# Altium footprint library LTC6811-2.PcbLib: 1 footprints
Each footprint in its own frame and in the unit in brackets; x right, y up, seen from the top. Pads: shape width x height; smd on the part's side, far side on the other; paste and mask are expansions set on the pad; w line width, h text height; cw(c..) or ccw(c..) is an arc to the next point about the centre after c.
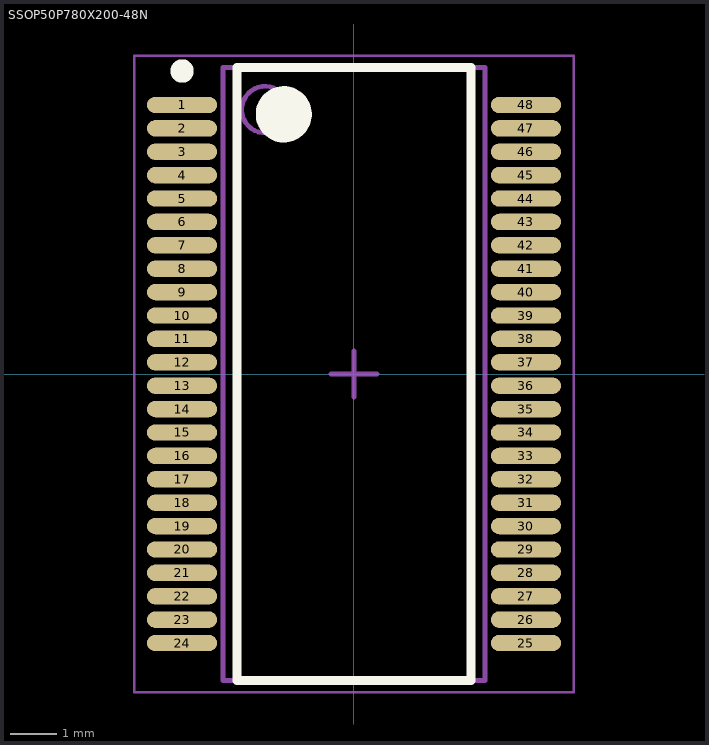
[diagram p0: the footprint, top view; thin cyan lines are the x and y axes]

## SSOP50P780X200-48N [mm] "SSOP, 48-Leads, Body 12.80x5.30mm, Pitch 0.50mm, IPC Medium Density"
height 2
pads (48):
  oval 1.5x0.35 smd: 1(-3.675,5.75) 2(-3.675,5.25) 3(-3.675,4.75) 4(-3.675,4.25) 5(-3.675,3.75) 6(-3.675,3.25) 7(-3.675,2.75) 8(-3.675,2.25) 9(-3.675,1.75) 10(-3.675,1.25) 11(-3.675,0.75) 12(-3.675,0.25) 13(-3.675,-0.25) 14(-3.675,-0.75) 15(-3.675,-1.25) 16(-3.675,-1.75) 17(-3.675,-2.25) 18(-3.675,-2.75) 19(-3.675,-3.25) 20(-3.675,-3.75) 21(-3.675,-4.25) 22(-3.675,-4.75) 23(-3.675,-5.25) 24(-3.675,-5.75) 25(3.675,-5.75) 26(3.675,-5.25) 27(3.675,-4.75) 28(3.675,-4.25) 29(3.675,-3.75) 30(3.675,-3.25) 31(3.675,-2.75) 32(3.675,-2.25) 33(3.675,-1.75) 34(3.675,-1.25) 35(3.675,-0.75) 36(3.675,-0.25) 37(3.675,0.25) 38(3.675,0.75) 39(3.675,1.25) 40(3.675,1.75) 41(3.675,2.25) 42(3.675,2.75) 43(3.675,3.25) 44(3.675,3.75) 45(3.675,4.25) 46(3.675,4.75) 47(3.675,5.25) 48(3.675,5.75)
Top Overlay:
  circle w0.25: c-3.675,6.475 r0.125
  circle w0.6: c-1.5,5.55 r0.3
  lines w0.2: -2.5,-6.55 -2.5,6.55 2.5,6.55 2.5,-6.55 -2.5,-6.55
Mechanical 13:
  circle w0.1: c-1.9,5.65 r0.5
  lines w0.1: -2.8,-6.55 -2.8,6.55 2.8,6.55 2.8,-6.55 -2.8,-6.55
Mechanical 15:
  lines w0.05: -4.7,-6.8 -4.7,6.8 4.7,6.8 4.7,-6.8 -4.7,-6.8
  lines w0.1: -0.5,0 0.5,0 ; 0,-0.5 0,0.5
3D body "SSOP50P780X200-48N.step": height 2, standoff 0, extent -3.9,-6.55 3.9,6.55